# EAGLE library part TPS7A45XX (library texas)
LOW-DROPOUT REGULATOR 1.5-A LOW-NOISE FAST-TRANSIENT-RESPONSE
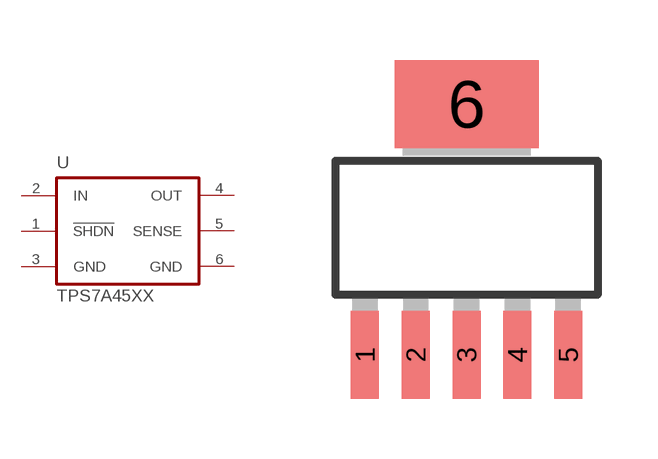
[diagram p83: symbol with the pads of SOT223-6; footprint SOT223-6]

Designator prefix U

## TPS7A45XXDCQ  [SOT223-6]
1  !SHDN!  in
2  IN  in
3  GND  pwr
4  OUT  pas
5  SENSE  pas
6  GND  pas

## Footprint SOT223-6 (pad centres in mm)
SOT-223 5 lead
smd 0.7 x 2.2: 1 -2.54,-3.175; 2 -1.27,-3.175; 3 0,-3.175; 4 1.27,-3.175; 5 2.54,-3.175
smd 3.6 x 2.2: 6 0,3.1